# EAGLE library part TL081CDR (library TL081CDR)
TL081CDR, Operational Amplifier 3MHz, 8-Pin SOIC Source: Datasheet <http://www.ti.com/lit/ds/symlink/tl081.pdf>
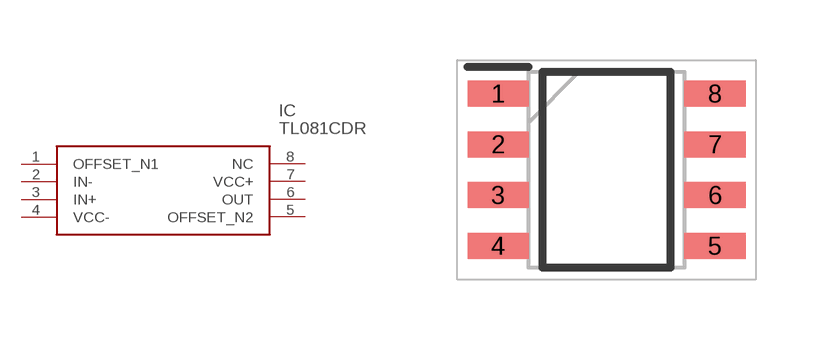
[diagram p0: symbol with the pads of SOIC127P600X175-8N; footprint SOIC127P600X175-8N]

Designator prefix IC

## TL081CDR (Description: TL081CDR, Operational Amplifier 3MHz, 8-Pin SOIC; Height: 1.75mm; Manufacturer_Name: Texas Instruments; Manufacturer_Part_Number: TL081CDR; Mouser_Part_Number: 595-TL081CDR; Mouser_Price-Stock: https://www.mouser.co.uk/ProductDetail/Texas-Instruments/TL081CDR?qs=odmYgEirbwwDMR5v%252BrfUTg%3D%3D)  [SOIC127P600X175-8N]
1  OFFSET_N1
2  IN-
3  IN+
4  VCC-
5  OFFSET_N2
6  OUT
7  VCC+
8  NC  nc

## Footprint SOIC127P600X175-8N (pad centres in mm)
D0008A
smd 1.528 x 0.65: 1 -2.711,1.905; 2 -2.711,0.635; 3 -2.711,-0.635; 4 -2.711,-1.905; 5 2.711,-1.905; 6 2.711,-0.635; 7 2.711,0.635; 8 2.711,1.905